# EAGLE library part FT231X (library chips)
USB Bridge, USB to UART USB 2.0 UART Interface
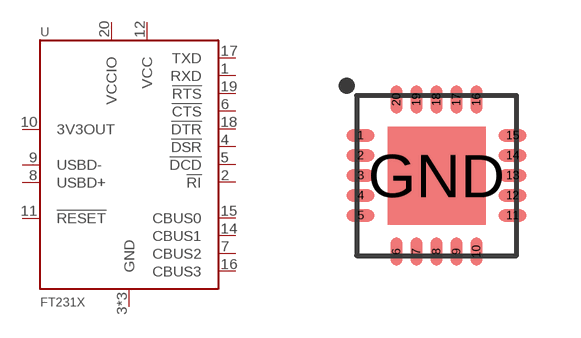
[diagram p62: symbol with the pads of QFN-20-4MM; footprint QFN-20-4MM]

Designator prefix U

## FT231XQ (DIGIKEY: 768-1128-1-ND; MPN: FT231XQ-R)  [QFN-20-4MM]
1  RXD
2  !RI
3  GND
4  !DSR
5  !DCD
6  !CTS
7  CBUS2
8  USBD+
9  USBD-
10  3V3OUT
11  !RESET
12  VCC
13  GND
14  CBUS1
15  CBUS0
16  CBUS3
17  TXD
18  !DTR
19  !RTS
20  VCCIO
GND  GND

## Footprint QFN-20-4MM (pad centres in mm)
smd 0.7 x 0.3: 1 -1.9,1; 2 -1.9,0.5; 3 -1.9,0; 4 -1.9,-0.5; 5 -1.9,-1; 11 1.9,-1; 12 1.9,-0.5; 13 1.9,0; 14 1.9,0.5; 15 1.9,1
smd 0.3 x 0.7: 6 -1,-1.9; 7 -0.5,-1.9; 8 0,-1.9; 9 0.5,-1.9; 10 1,-1.9; 16 1,1.9; 17 0.5,1.9; 18 0,1.9; 19 -0.5,1.9; 20 -1,1.9
smd 2.45 x 2.45: GND 0,0